# Altium schematic symbol library 1-Anterina 天线&连接器.SchLib: 7 symbols
Pins are listed as number, name and electrical type; pins without a type are passive.

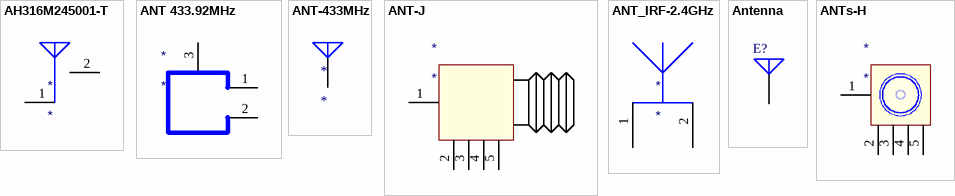
[diagram p0: symbols AH316M245001-T to ANTs-H]

## AH316M245001-T
designator *
footprint AH316M245001-T_a
pins: 1, 2

## ANT 433.92MHz
designator *
footprint ANT-433.92MHz
pins: 1, 2, 3

## ANT-433MHz
designator *
footprint ANT-433MHz R
pins: 1 A

## ANT-J
designator *
footprint HUBER-SUHNER_85 SMA-50-0-101/111 NE (50 Ohm SMA Right Angle PCB Jack)
pins: 1, 2, 3, 4, 5

## ANT_IRF-2.4GHz
designator *
footprint IRF-2.4GHz
pins: 1, 2 GND

## Antenna
designator E?
Generic Antenna; Published: 24-Mar-1999; LatestRevisionDate: 17-Jul-2002; LatestRevisionNote: Re-released for DXP Platform.; PackageReference: PIN1; Publisher: Altium Limited
footprint 433MHz
pins: 1 A

## ANTs-H
designator *
footprint HUBER-SUHNER_82 SMA-50-0-41/133 NE (50 Ohm SMA Straight PCB Jack)
pins: 1, 2, 3, 4, 5